# Altium footprint library Ale.PcbLib: 181 footprints (part 1 of 12)
Each footprint in its own frame and in the unit in brackets; x right, y up, seen from the top. Pads: shape width x height; smd on the part's side, far side on the other; paste and mask are expansions set on the pad; w line width, h text height; cw(c..) or ccw(c..) is an arc to the next point about the centre after c.
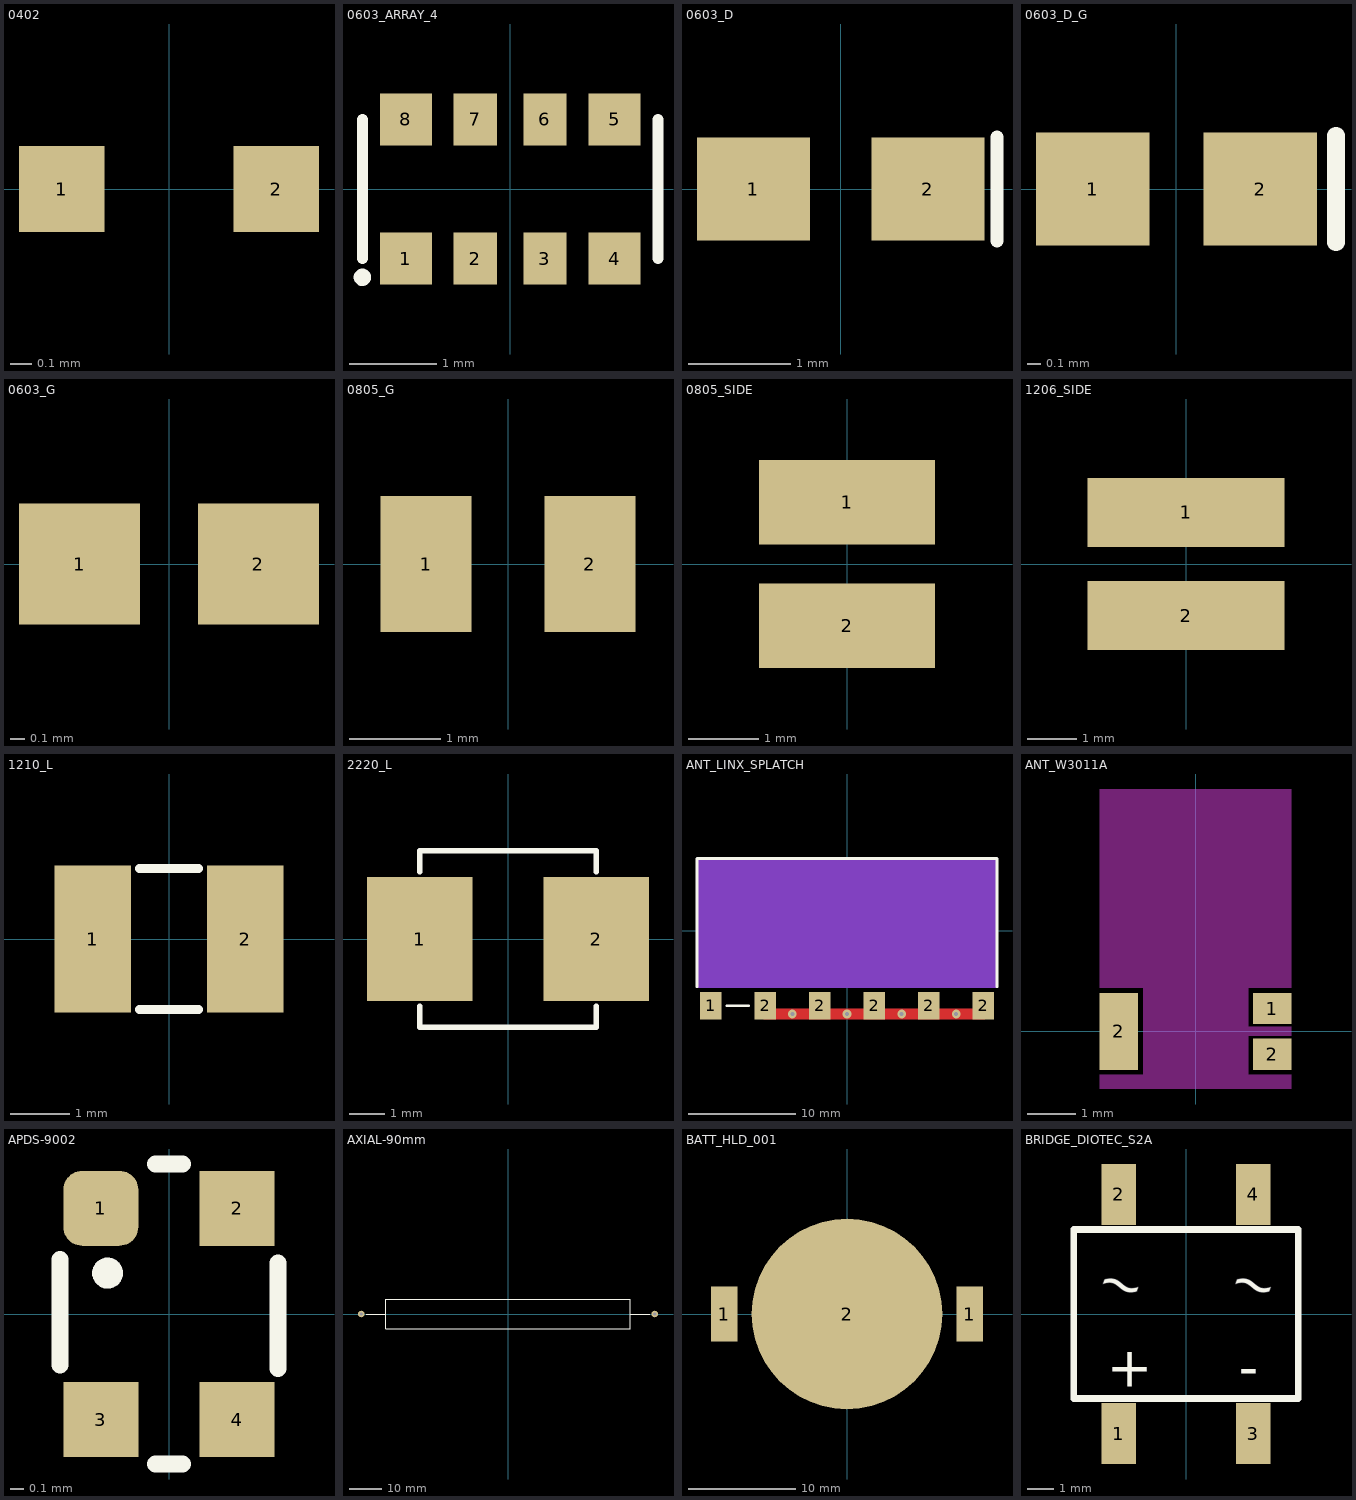
[diagram p0: the footprints below, top view; thin cyan lines are the x and y axes]

## 0402 [mm] "Modified 0402 SMD (following ACORT specs)"
height 0.3
pads (2):
  rect 0.4x0.4 smd: 1(-0.5,0) 2(0.5,0)
3D body: height 0.3, standoff 0, extent -0.5,-0.25 0.5,0.25

## 0603_ARRAY_4 [mm] "4x0603 resistor array"
height 0.6
pads (8):
  rect 0.6x0.6 smd: 1(-1.2,-0.8) 4(1.2,-0.8) 5(1.2,0.8) 8(-1.2,0.8)
  rect 0.5x0.6 smd: 2(-0.4,-0.8) 3(0.4,-0.8) 6(0.4,0.8) 7(-0.4,0.8)
Top Overlay:
  circle w0.1: c-1.701,-1.016 r0.05
  lines w0.127: -1.7,-0.8 -1.7,0.8 ; 1.7,-0.8 1.7,0.8
3D body: height 0.6, standoff 0, extent -1.6,-0.8 1.6,0.8

## 0603_D [mm] "Diode; Body 1.6 x 0.8 mm (LxW typ)"
height 0.6
pads (2):
  rect 1.1x1 smd: 1(-0.85,0) 2(0.85,0)
Top Overlay:
  lines w0.127: 1.524,-0.508 1.524,0.508
3D body: height 0.6, standoff 0, extent -0.799,-0.399 0.799,0.399

## 0603_D_G [mil] "Modified 0603 pattern (reduced size), diode"
height 23.62
pads (2):
  rect 32x32 smd: 1(-23.62,0) 2(23.62,0)
Top Overlay:
  lines w5: 45,-15 45,15

## 0603_G [mil] "Modified 0603 pattern (reduced size)"
height 23.62
pads (2):
  rect 32x32 smd: 1(-23.62,0) 2(23.62,0)
3D body: height 27.56, standoff 0, extent -29.53,-14.76 29.53,14.76

## 0805_G [mm] "Modified 0805 pattern (reduced size)"
height 0.6
pads (2):
  rect 1x1.5 smd: 1(-0.9,0) 2(0.9,0)
3D body: height 0.6, standoff 0, extent -1,-0.625 1,0.625

## 0805_SIDE [mm] "0805 pattern (1220 metric), contacts on long side"
height 0.5
pads (2):
  rect 2.5x1.2 smd: 1(0,0.875) 2(0,-0.875)
3D body: height 0.5, standoff 0, extent -1,-0.6 1,0.6

## 1206_SIDE [mm] "1206 pattern (3216 metric), contacts on long side"
height 0.5
pads (2):
  rect 4x1.4 smd: 1(0,1.05) 2(0,-1.05)
3D body: height 0.5, standoff 0, extent -1.6,-0.8 1.6,0.8

## 1210_L [mm] "1210 size inductor"
height 2
pads (2):
  rect 1.3x2.5 smd: 1(-1.3,0) 2(1.3,0)
Top Overlay:
  lines w0.15: -0.5,-1.2 0.5,-1.2 ; -0.5,1.2 0.5,1.2
3D body: height 2, standoff 0, extent -1.6,-1.25 1.6,1.25

## 2220_L [mm] "2220 size inductor"
height 4.7
pads (2):
  rect 3x3.5 smd: 1(-2.5,0) 2(2.5,0)
Top Overlay:
  lines w0.15: -2.5,-1.9 -2.5,-2.5 2.5,-2.5 2.5,-1.9 ; -2.5,1.9 -2.5,2.5 2.5,2.5 2.5,1.9
3D body: height 4.7, standoff 0, extent -2.5,-2.5 2.5,2.5

## ANT_LINX_SPLATCH [mm] "Linx ANT-XXX-SP \"splatch\" antennas"
height 1.5
pads (6):
  rect 2x2.54 smd: 1(-12.7,-6.985) 2(-7.62,-6.985) 2(-2.54,-6.985) 2(2.54,-6.985) 2(7.62,-6.985) 2(12.7,-6.985)
via -5.08,-7.747 diameter 0.8 hole 0.35
via 0,-7.747 diameter 0.8 hole 0.35
via 5.08,-7.747 diameter 0.8 hole 0.35
via 10.16,-7.747 diameter 0.8 hole 0.35
Top Layer:
  lines w1.01: -7.62,-7.747 12.7,-7.747
Top Layer keep-out:
  region: 13.97,6.604 -13.97,6.604 -13.97,-5.334 13.97,-5.334
Bottom Layer keep-out:
  region: 13.97,6.604 -13.97,6.604 -13.97,-5.334 13.97,-5.334
Top Overlay:
  lines w0.25: -13.97,-5.207 -13.97,6.731 13.97,6.731 13.97,-5.207 ; -11.176,-6.985 -9.144,-6.985
3D body: height 1.5, standoff 0, extent -13.969,-6.984 13.969,6.73

## ANT_W3011A [mm] "Pulse W3011A GPS Ceramic Chip Antenna"
height 1.1
pads (3):
  rect 0.8x0.65 smd: 1(1.6,0.475) 2(1.6,-0.475)
  rect 0.8x1.6 smd: 2(-1.6,0)
Keep-Out Layer:
  rectangle: -2,0.9 2,5.05
  rectangle: -2,-1.2 2,-0.9
  rectangle: -1.1,-0.9 1.1,0.9
  rectangle: 1.1,-0.1 2,0.1
3D body: height 1.1, standoff 0, extent -1.599,-0.799 1.599,0.799

## APDS-9002 [mm] "Miniature Surface-Mount Ambient Light Photo Sensor"
height 0.8
pads (4):
  rrect50% 0.55x0.55 smd: 1(-0.5,0.775)
  rect 0.55x0.55 smd: 2(0.5,0.775) 3(-0.5,-0.775) 4(0.5,-0.775)
Top Overlay:
  circle w0.127: c-0.45,0.3 r0.05
  lines w0.125: -0.8,-0.375 -0.8,0.4 ; -0.1,-1.1 0.1,-1.1 ; -0.1,1.1 0.1,1.1 ; 0.8,-0.4 0.8,0.375
3D body: height 0.8, standoff 0.3, extent -0.624,-0.699 0.624,0.699
3D body: height 0.3, standoff 0, extent -0.624,-0.999 0.624,0.999

## AXIAL-90mm [mm] "Power resistor"
height 15
pads (2):
  round 2 hole 1: 1(-45,0) 2(45,0)
Top Overlay:
  lines w0.127: -43.434,0 -37.5,0 ; 37.5,0 43.434,0
  lines w0.254: -37.5,-4.5 37.5,-4.5 37.5,4.5 -37.5,4.5 -37.5,-4.5
3D body: height 15, standoff 6, extent -37.499,-4.499 37.499,4.499

## BATT_HLD_001 [mm] "Linx BAT-HLD-001 holder for CR2032"
height 4.2
pads (3):
  rect 2.5x5.1 smd: 1(-11.45,0) 1(11.45,0)
  round 17.8 smd: 2(0,0)
3D body: height 3.2, standoff 0, extent -9.999,-9.999 9.999,9.999
3D body: height 4.2, standoff 3.3, extent -10.549,-5.799 10.549,5.799

## BRIDGE_DIOTEC_S2A [mm] "Diotec xxxS2A rectifier bridges"
height 3.3
pads (4):
  rect 1.3x2.3 smd: 1(-2.55,-4.525) 2(-2.55,4.525) 3(2.55,-4.525) 4(2.55,4.525)
Top Overlay:
  lines w0.254: -4.25,-3.2 -4.25,3.2 4.25,3.2 4.25,-3.2 -4.25,-3.2
  text "~" at 1.5,0.75 h1.52
  text "~" at -3.5,0.75 h1.52
  text "-" at 2,-2.75 h1.52
  text "+" at -3,-2.75 h1.52
3D body: height 3.3, standoff 0, extent -4.249,-3.199 4.249,3.199